# Altium footprint library Shelestov_Connectors.PcbLib: 27 footprints (part 2 of 2)
Each footprint in its own frame and in the unit in brackets; x right, y up, seen from the top. Pads: shape width x height; smd on the part's side, far side on the other; paste and mask are expansions set on the pad; w line width, h text height; cw(c..) or ccw(c..) is an arc to the next point about the centre after c.
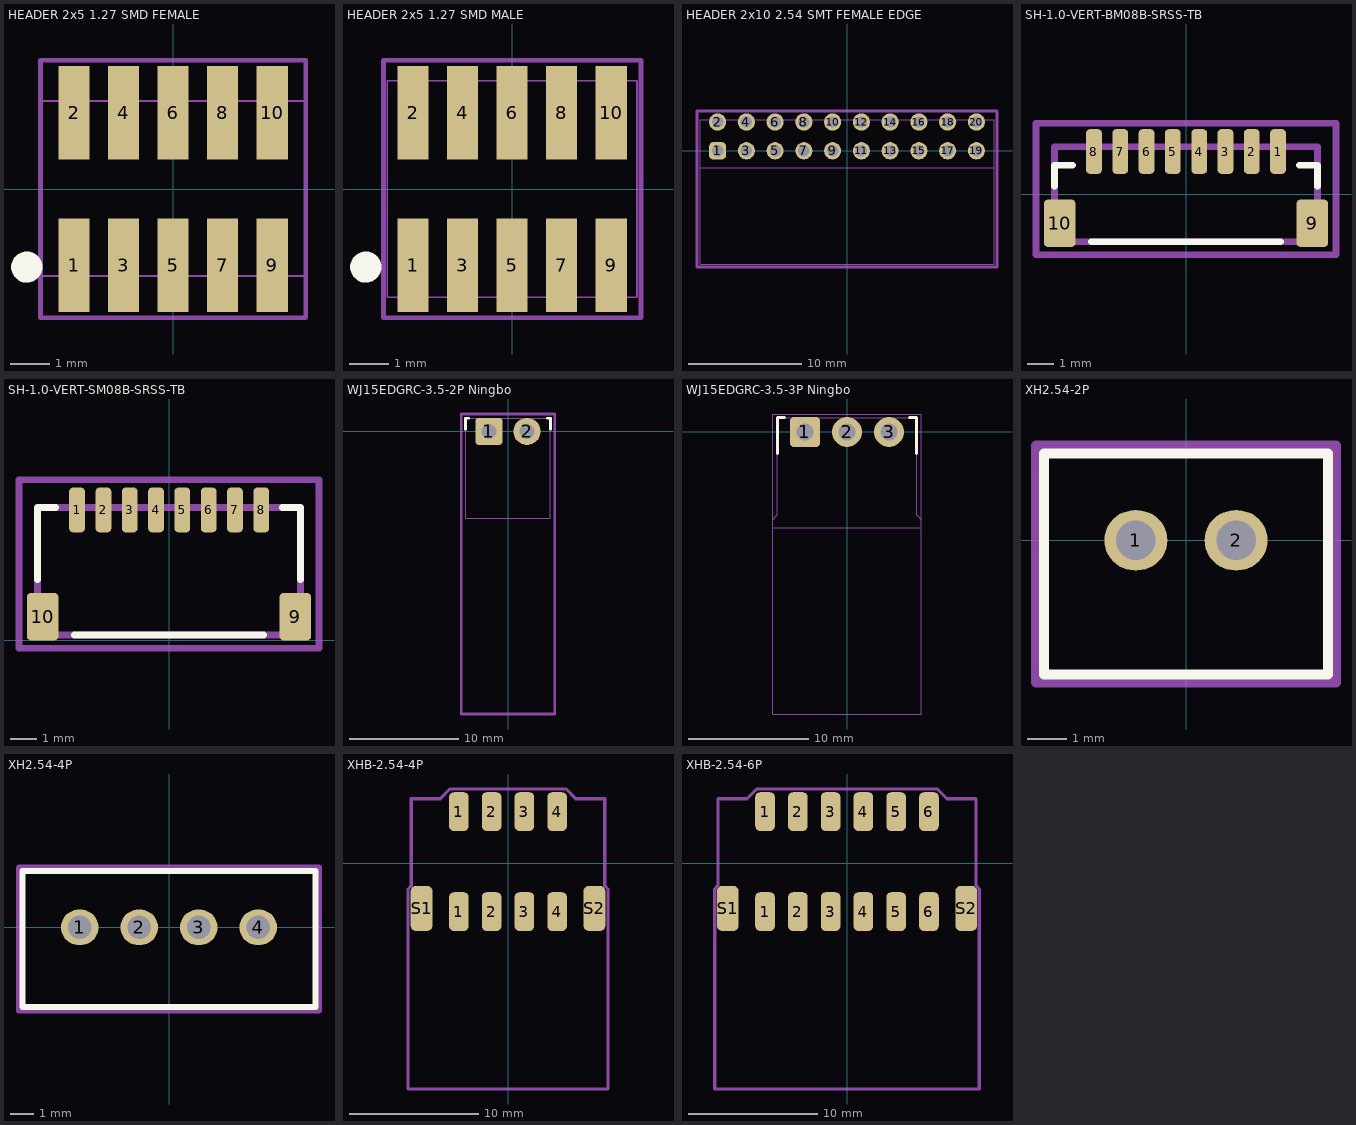
[diagram p1: the footprints below, top view; thin cyan lines are the x and y axes]

## HEADER 2x5 1.27 SMD FEMALE [mm]
pads (10):
  rect 0.8x2.4 smd: 1(-2.54,-1.95) 2(-2.54,1.95) 3(-1.27,-1.95) 4(-1.27,1.95) 5(0,-1.95) 6(0,1.95) 7(1.27,-1.95) 8(1.27,1.95) 9(2.54,-1.95) 10(2.54,1.95)
Top Overlay:
  circle w0.4: c-3.75,-2 r0.2
Top Assembly:
  lines w0.05: -3.4,-2.225 -3.4,2.25 3.4,2.25 3.4,-2.225 -3.4,-2.225
  text ".Designator" at -4.998,-0.333 h1
Top Courtyard:
  lines w0.127: -3.4,-3.3 -3.4,3.3 3.4,3.3 3.4,-3.3 -3.4,-3.3
3D body "Minitek 2002132300010T8LF.step": height 2.16, standoff 0.01, extent -3.405,-2.215 3.405,2.235

## HEADER 2x5 1.27 SMD MALE [mm]
pads (10):
  rect 0.8x2.4 smd: 1(-2.54,-1.95) 2(-2.54,1.95) 3(-1.27,-1.95) 4(-1.27,1.95) 5(0,-1.95) 6(0,1.95) 7(1.27,-1.95) 8(1.27,1.95) 9(2.54,-1.95) 10(2.54,1.95)
Top Overlay:
  circle w0.4: c-3.75,-2 r0.2
Top Assembly:
  lines w0.05: -3.2,-2.775 3.2,-2.775 3.2,2.775 -3.2,2.775 -3.2,-2.775
  text ".Designator" at -4.998,-0.333 h1
Top Courtyard:
  lines w0.127: -3.3,-3.3 -3.3,3.3 3.3,3.3 3.3,-3.3 -3.3,-3.3
3D body "Minitek 2002112100010T1LF.step": height -0.45, standoff -4.95, extent -3.175,-2.75 3.175,2.75

## HEADER 2x10 2.54 SMT FEMALE EDGE [mil]
pads (20):
  rrect50% 60x60 hole 39.37: 1(-450,0)
  round 60 hole 39.37: 2(-450,100) 3(-350,0) 4(-350,100) 5(-250,0) 6(-250,100) 7(-150,0) 8(-150,100) 9(-50,0) 10(-50,100) 11(50,0) 12(50,100) 13(150,0) 14(150,100) 15(250,0) 16(250,100) 17(350,0) 18(350,100) 19(450,0) 20(450,100)
Top Assembly:
  lines w3.94: -509.84,-59.06 509.84,-59.06 ; -509.84,-393.7 -509.84,107.28 509.84,107.28 509.84,-393.7 -509.84,-393.7
  text ".Designator" at -443.43,-241.4 h196.85
Top Courtyard:
  lines w10: -521.65,-403.54 521.65,-403.54 521.65,137.8 -521.65,137.8 -521.65,-403.54
3D body "A2541HWR-2x10P.step": height 224.41, standoff -98.43, extent -509.84,-393.7 509.85,107.09

## SH-1.0-VERT-BM08B-SRSS-TB [mm]
pads (10):
  rrect50% 0.6x1.7 smd: 1(3.5,1.625) 2(2.5,1.625) 3(1.5,1.625) 4(0.5,1.625) 5(-0.5,1.625) 6(-1.5,1.625) 7(-2.5,1.625) 8(-3.5,1.625)
  rrect25% 1.2x1.8 smd: 9(4.8,-1.1) 10(-4.8,-1.1)
Top Overlay:
  lines w0.254: -5,0.3 -5,1.1 -4.3,1.1 ; -3.6,-1.8 3.6,-1.8 ; 4.3,1.1 5,1.1 5,0.3
Top Assembly:
  lines w0.254: -5,-1.8 -5,1.8 5,1.8 5,-1.8 -5,-1.8
  text ".Designator" at -4.5,-0.952 h2
Top Courtyard:
  lines w0.254: -5.7,-2.3 5.7,-2.3 5.7,2.7 -5.7,2.7 -5.7,-2.3
3D body "BM08B-SRSS-TB.step": height 4.4, standoff 0.05, extent -5,-1.8 5,1.8

## SH-1.0-VERT-SM08B-SRSS-TB [mm]
pads (10):
  rrect50% 0.6x1.7 smd: 1(-3.493,4.955) 2(-2.493,4.955) 3(-1.493,4.955) 4(-0.493,4.955) 5(0.507,4.955) 6(1.507,4.955) 7(2.507,4.955) 8(3.507,4.955)
  rrect25% 1.2x1.8 smd: 9(4.8,0.9) 10(-4.8,0.9)
Top Overlay:
  lines w0.254: -5,2.3 -5,5.05 -4.3,5.05 ; -3.6,0.2 3.6,0.2 ; 4.3,5.05 5,5.05 5,2.3
Top Assembly:
  lines w0.254: -5,0.2 5,0.2 5,5.05 -5,5.05 -5,0.2
  text ".Designator" at -4.5,1.048 h2
Top Courtyard:
  lines w0.254: -5.7,-0.3 -5.7,6.1 5.7,6.1 5.7,-0.3 -5.7,-0.3
3D body: height 2.95, standoff 0, extent -5,0.2 5,5.05

## WJ15EDGRC-3.5-2P Ningbo [mm]
height 8.5
pads (2):
  rrect25% 2.5x2.5 hole 1.4: 1(-1.75,0)
  round 2.5 hole 1.4: 2(1.75,0)
Top Overlay:
  lines w0.254: -3.9,0.2 -3.9,1.2 -3.6,1.2 ; 3.6,1.2 3.9,1.2 3.9,0.2
Top Assembly:
  lines w0.1: -3.9,-8 3.9,-8 3.9,1.2 -3.9,1.2 -3.9,-8
  text ".Designator" at -6.75,-4.678 h3
Top Courtyard:
  lines w0.254: -4.3,-26 -4.3,1.6 0,1.6 4.3,1.6 4.3,-26 -4.3,-26
3D body "DEGSON-15EDGK-EDGC-3.5-02P-14-00A(H).stp": height 7.8, standoff -3.3, extent -3.9,-16.6 3.9,1.2

## WJ15EDGRC-3.5-3P Ningbo [mm]
height 8.5
pads (3):
  rrect25% 2.5x2.5 hole 1.4: 1(-3.5,0)
  round 2.5 hole 1.4: 2(0,0) 3(3.5,0)
Top Overlay:
  lines w0.254: -5.8,-1.8 -5.8,1.2 -5.2,1.2 ; 5.2,1.2 5.8,1.2 5.8,-1.8
Top Assembly:
  lines w0.1: -6.2,-8 6.2,-8 6.2,-7.3 5.8,-6.9 5.8,-0.7 5.8,1.2 -5.8,1.2 -5.8,-0.7 -5.8,-6.9 -6.2,-7.3 -6.2,-8
  text ".Designator" at -6.75,-4.678 h3
Top Courtyard:
  lines w0.1: -6.2,-23.5 -6.2,1.5 6.2,1.5 6.2,-23.5 -6.2,-23.5
3D body "WJ15EDGRC-3.5-3P.step": height 7.9, standoff -3.3, extent -6.25,-16.9 6.25,1.2

## XH2.54-2P [mm]
pads (2):
  oval 1.6x1.524 hole 1: 1(-1.27,0) 2(1.27,0)
Top Overlay:
  lines w0.254: -3.6,-3.4 -3.6,2.2 3.6,2.2 3.6,-3.4 -3.6,-3.4
Top Assembly:
  lines w0.1: -3.7,-3.5 -3.7,2.3 3.7,2.3 3.7,-3.5 -3.7,-3.5
  text ".Designator" at -6.75,-2.778 h3
Top Courtyard:
  lines w0.254: -3.8,-3.6 -3.8,2.4 3.8,2.4 3.8,-3.6 -3.8,-3.6
3D body "XH2_54_2PIN_ED.step": height 7, standoff -3, extent -3.7,-3.5 3.7,2.3

## XH2.54-4P [mm]
pads (4):
  oval 1.6x1.524 hole 1: 1(-3.81,0) 2(-1.27,0) 3(1.27,0) 4(3.81,0)
Top Overlay:
  lines w0.254: -6.25,-3.4 -6.25,2.4 6.25,2.4 6.25,-3.4 -6.25,-3.4
Top Assembly:
  lines w0.1: -6.25,-3.4 -6.25,2.4 6.25,2.4 6.25,-3.4 -6.25,-3.4
  text ".Designator" at -6.75,-2.778 h3
Top Courtyard:
  lines w0.254: -6.4,-3.55 6.4,-3.55 6.4,2.55 -6.4,2.55 -6.4,-3.55
3D body "User Library-XH2_54-4P_step.step": height 7.1, standoff -1.7, extent -6.25,-3.4 6.25,2.4

## XHB-2.54-4P [mm]
pads (10):
  rrect50% 1.524x3 smd: 1(-3.81,-3.75) 1(-3.81,4) 2(-1.27,-3.75) 2(-1.27,4) 3(1.27,-3.75) 3(1.27,4) 4(3.81,-3.75) 4(3.81,4)
  rrect50% 1.7x3.5 smd: S1(-6.7,-3.5) S2(6.7,-3.5)
Top Assembly:
  text ".Designator" at -6.75,-0.678 h3
Top Courtyard:
  lines w0.254: 7.5,5 7.5,-1.75 7.75,-2 7.75,-17.5 -7.75,-17.5 -7.75,-2 -7.5,-1.75 -7.5,5 -5.25,5 -4.5,5.75 4.5,5.75 5.25,5 7.5,5 ; 7.5,5 7.5,5
3D body "XHB-2.54-4P.step": height 6.5, standoff 0.03, extent -7.493,-5.24 7.507,4.946

## XHB-2.54-6P [mm]
pads (14):
  rrect50% 1.524x3 smd: 1(-6.35,-3.75) 1(-6.35,4) 2(-3.81,-3.75) 2(-3.81,4) 3(-1.27,-3.75) 3(-1.27,4) 4(1.27,-3.75) 4(1.27,4) 5(3.81,-3.75) 5(3.81,4) 6(6.35,-3.75) 6(6.35,4)
  rrect50% 1.7x3.5 smd: S1(-9.24,-3.5) S2(9.24,-3.5)
Top Assembly:
  text ".Designator" at -6.75,-0.678 h3
Top Courtyard:
  lines w0.254: -10.25,-17.5 10.25,-17.5 10.25,-2 10,-1.75 10,5 7.75,5 7,5.75 -7,5.75 -7.75,5 -10,5 -10,-1.75 -10.25,-2 -10.25,-17.5
3D body "XHB-2.54_6P_angled_smt.STEP": height 6, standoff -0.02, extent -10.02,-5.3 10.02,5